# EAGLE library part LM5069 (library lib_ysk)
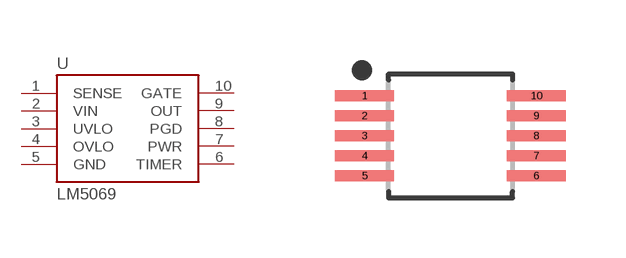
[diagram p2: symbol with the pads of SOP50P490X110-10; footprint SOP50P490X110-10]

Designator prefix U

## LM5069MM  [SOP50P490X110-10]
1  SENSE
2  VIN
3  UVLO
4  OVLO
5  GND
6  TIMER
7  PWR
8  PGD
9  OUT
10  GATE

## Footprint SOP50P490X110-10 (pad centres in mm)
10-SOP, 0.50 mm pitch, 4.90 mm span, 3.00 X 3.00 X 1.10 mm body 10-pin SOP package with 0.50 mm pitch, 4.90 mm span with body size 3.00 X 3.00 X 1.10 mm
smd 1.471 x 0.28: 1 -2.15,1; 2 -2.15,0.5; 3 -2.15,0; 4 -2.15,-0.5; 5 -2.15,-1; 6 2.15,-1; 7 2.15,-0.5; 8 2.15,0; 9 2.15,0.5; 10 2.15,1